# EAGLE library part ADS7817U (library burr-brown)
12-Bit 200 kSPS ADC
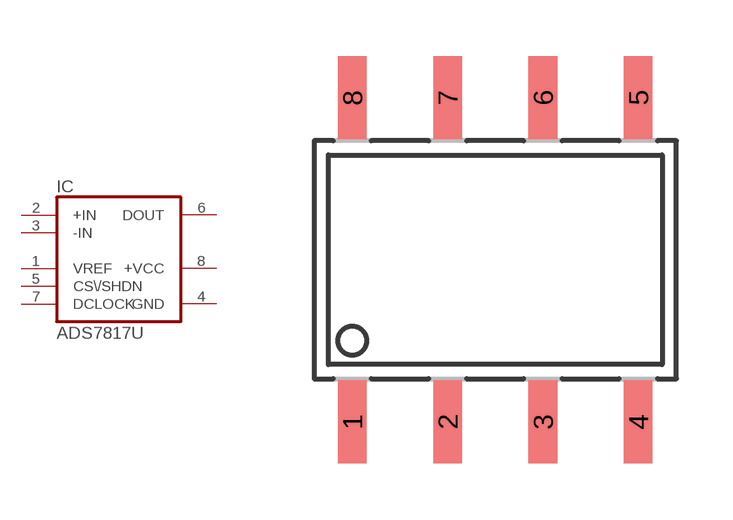
[diagram p40: symbol with the pads of SO8-GW; footprint SO8-GW]

Designator prefix IC

## ADS7817U  [SO8-GW]
1  VREF  in
2  +IN  in
3  -IN  in
4  GND  pwr
5  CS\/SHDN  in
6  DOUT  out
7  DCLOCK  in
8  +VCC  pwr

## Footprint SO8-GW (pad centres in mm)
smd 0.762 x 2.21: 1 -3.81,-4.318; 2 -1.27,-4.318; 3 1.27,-4.318; 4 3.81,-4.318; 5 3.81,4.318; 6 1.27,4.318; 7 -1.27,4.318; 8 -3.81,4.318